# Altium schematic symbol library COM-16346.SchLib: 1 symbol
Pins are listed as number, name and electrical type; pins without a type are passive.

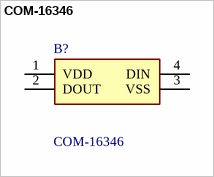
[diagram p0: symbol COM-16346]

## COM-16346
designator B?
LED Lighting Bars and Strips SMD LED - RGB WS2812B (Strip of 50); Manufacturer_Name: SparkFun; Geometry.Height: 2.25mm; Mouser Part Number: 474-COM-16346; Mouser Price/Stock: https://www.mouser.co.uk/ProductDetail/SparkFun/COM-16346?qs=OlC7AqGiEDnspdV1Dchx7w%3D%3D; Manufacturer_Part_Number: COM-16346; Datasheet Link: http://cdn.sparkfun.com/datasheets/BreakoutBoards/WS2812B.pdf
footprint COM16346
pins: 1 VDD, 2 DOUT, 3 VSS, 4 DIN